# EAGLE library part 658511223030 (library WR-BTB)
WR-BTB Board to Board Characteristics Insulator flammability rating: UL94 V-0 Defined board to board distance from 5.00 mm up to 16.00 mm Available pin-counts: 64 pins (1.0 mm version) / 40, 80 or 100 pins (0.8 mm version) Contact plating: selective gold Operating temperature: -55 °C up to +85 °C Quality class: 30 mating cycles Contact resistance: 30 mΩ Working Voltage: 100 V (AC) UL approval: E323964 Applications Board-to-board connection for secure and fast data connections Defined PCB spacing In conjunction with SMT spacers or threaded spacers, a stable connection of stacked PCBs. <https://www.we-online.com/components/media/o790799v209%20WR-BTB_Gruppe.jpg> Details see: www.we-online.com/en/components/products/WR_BTB <www.we-online.com/catalog/WR_BTB/?utm_source=eagle_model&utm_medium=description_link&utm_campaign=eisos_eagle> Created by Ella 2025-05-14 2025(C) Würth Elektronik
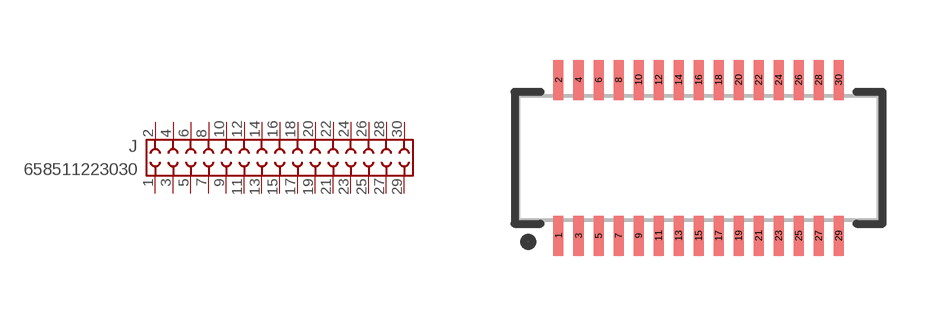
[diagram p13: symbol with the pads of 658511223030; footprint 658511223030]

Designator prefix J

## 658511223030 (DATASHEET-URL: https://www.we-online.com/redexpert/spec/658511223030?ae; GENDER: Receptacle; HEIGHT: 1.2mm; IR: 300mA; MOUNT: SMT; PACKAGING: Tape and Reel with Cap; PART-NUMBER: 658511223030; PINS: 30; PITCH: 0.5mm; TYPE: Vertical; VALUE: 658511223030)  [658511223030]
1  1  pas
2  2  pas
3  3  pas
4  4  pas
5  5  pas
6  6  pas
7  7  pas
8  8  pas
9  9  pas
10  10  pas
11  11  pas
12  12  pas
13  13  pas
14  14  pas
15  15  pas
16  16  pas
17  17  pas
18  18  pas
19  19  pas
20  20  pas
21  21  pas
22  22  pas
23  23  pas
24  24  pas
25  25  pas
26  26  pas
27  27  pas
28  28  pas
29  29  pas
30  30  pas

## Footprint 658511223030 (pad centres in mm)
WR-BTB Board to Board Pitch: 0.5mm, Receptacle, 30pins, SMT Height = 1.2mm
smd 0.25 x 1: 1 -3.5,-1.95; 2 -3.5,1.95; 3 -3,-1.95; 4 -3,1.95; 5 -2.5,-1.95; 6 -2.5,1.95; 7 -2,-1.95; 8 -2,1.95; 9 -1.5,-1.95; 10 -1.5,1.95; 11 -1,-1.95; 12 -1,1.95; 13 -0.5,-1.95; 14 -0.5,1.95; 15 0,-1.95; 16 0,1.95; 17 0.5,-1.95; 18 0.5,1.95; 19 1,-1.95; 20 1,1.95; 21 1.5,-1.95; 22 1.5,1.95; 23 2,-1.95; 24 2,1.95; 25 2.5,-1.95; 26 2.5,1.95; 27 3,-1.95; 28 3,1.95; 29 3.5,-1.95; 30 3.5,1.95